# EAGLE library part MAX15062AATA+T (library MAX15062AATA)
MAXIM INTEGRATED PRODUCTS - MAX15062AATA+T - DC/DC CTRL, SYNC BUCK, 500KHZ, TDFN-8 Source: Datasheet <https://componentsearchengine.com/Datasheets/1/MAX15062AATA T.pdf>
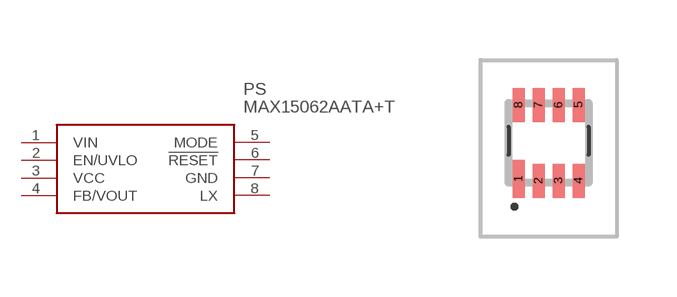
[diagram p0: symbol with the pads of MAX14591ETAT; footprint MAX14591ETAT]

Designator prefix PS

## MAX15062AATA+T (Description: MAXIM INTEGRATED PRODUCTS - MAX15062AATA+T - DC/DC CTRL, SYNC BUCK, 500KHZ, TDFN-8; Height: 0mm; Manufacturer_Name: Maxim Integrated; Manufacturer_Part_Number: MAX15062AATA+T; Mouser_Part_Number: 700-MAX15062AATA+T; Mouser_Price-Stock: https://www.mouser.com/Search/Refine.aspx?Keyword=700-MAX15062AATA%2BT)  [MAX14591ETAT]
1  VIN
2  EN/UVLO
3  VCC
4  FB/VOUT
5  MODE
6  !RESET
7  GND
8  LX

## Footprint MAX14591ETAT (pad centres in mm)
8 TDFN (T822CN+1)
smd 0.3 x 0.95: 1 -0.75,-0.762
smd 0.3 x 0.85: 2 -0.25,-0.812; 3 0.25,-0.812; 4 0.75,-0.812; 5 0.75,1.088; 6 0.25,1.088; 7 -0.25,1.088; 8 -0.75,1.088